# Altium integrated library Texas Instruments Power Management PWM Controller.IntLib: 1227 symbols (part 42 of 49)
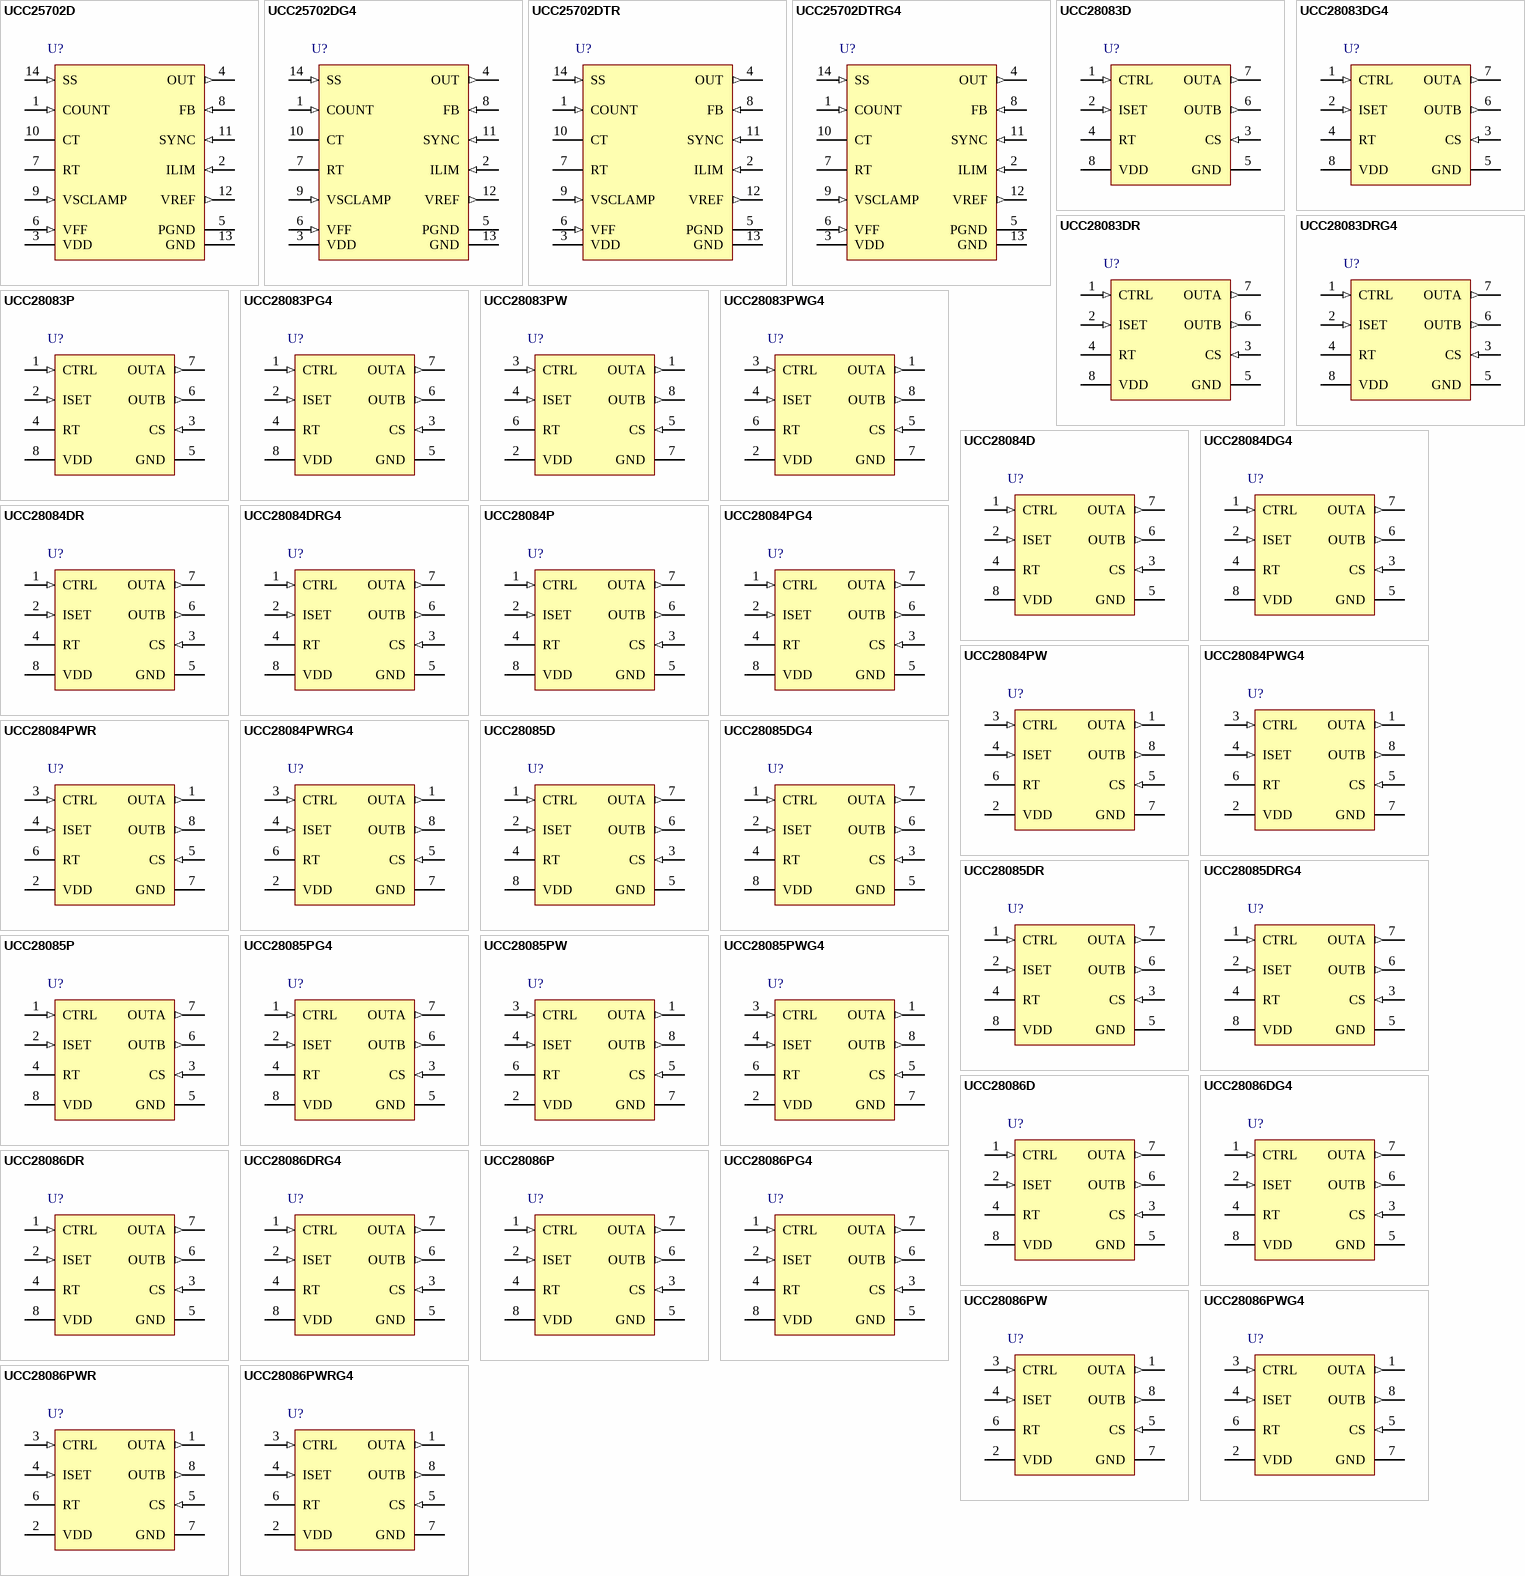
[diagram p84: symbols UCC25702D to UCC28086PWRG4]

## UCC25702DTR
designator U?
Advanced Voltage Mode Pulse Width Modulator with Voltage Control, 99 % Duty Cycle, -40 to +85 degC, 14-pin SOIC (D), Green (RoHS & no Sb/Br); PartNumber: UCC25702DTR; Manufacturer: Texas Instruments; Duty Cycle(Max)(%): 99; Frequency(Max)(kHz): 700; Rating: Catalog; Regulated Outputs(#): 1; SubFamily: PWM Controller; Topology: Boost, Flyback, Forward; UVLO Thresholds On/Off(V): 9.9/9.1; DatasheetVersion: SLUS293C; PackageVersion: revM, Jun-2011; PackageReference: D14; PackageDescription: 14-Pin Plastic Small Outline Integrated Circuit, 8.7 x 3.9 mm, Pitch 1.27 mm Pitch; Supplier 1: Digi-Key; Supplier Part Number 1: UCC25702DTR-ND; Supplier 2: Newark; Supplier Part Number 2: 77C1919; Supplier 3: Mouser; Supplier Part Number 3: 595-UCC25702DTR; Control Method: Voltage; Eco-Plan: Green (RoHS & no Sb/Br); Mounting Technology: Surface Mount; Code_JEDEC: MS-012AB; ComponentLink1Description: Datasheet; ComponentLink1URL: http://www.ti.com/general/docs/lit/getliterature.tsp?genericPartNumber=UCC25702&fileType=pdf
footprint D14_N (SOIC, 14-Leads, Body 8.7x3.9mm, Pitch 1.27mm, IPC Medium Density)
footprint D14_L (SOIC, 14-Leads, Body 8.7x3.9mm, Pitch 1.27mm, IPC High Density)
footprint D14_M (SOIC, 14-Leads, Body 8.7x3.9mm, Pitch 1.27mm, IPC Low Density)
pins: 1 COUNT (in) "Capacitor to ground integrates current pulses generated when ILIM exceeds 200mV. A resistor to ground sets the discharge time constant. A voltage over 4V will initiate a latched soft stop cycle.", 2 ILIM (in) "Provides a pulse by pulse current limit by terminating the PWM pulse when the input is above 200mV. An input over 600mV initiates a latched soft stop cycle.", 3 VDD (power) "Power supply pin. A shunt regulator limits supply voltage to 14V typical at 10mA shunt current.", 4 OUT (out) "Gate drive output. Output resistance is 10ohm maximum.", 5 PGND (power) "Power Ground. Ground return for output driver and currents.", 6 VFF (in) "Voltage feedforward pin. This pin connects to the power supply input voltage through a resistive divider and provides feedforward compensation over a 0.8V to 3.2V range. A voltage greater than 4.0V or less than 0.6V on this (See Datasheet)", 7 RT "The voltage on this pin mirrors VFF over a 0.8V to 3.2V range. A resistor to ground sets the ramp capacitor charge current. The resistor value should be between 20k and 200k.", 8 FB (in) "Input to the PWM comparator. This pin is intended to be driven with an optocoupler circuit. Input impedance is 50 k ohm Typical modulation range is 1.6V to 3.6V.", 9 VSCLAMP (in) "Voltage at this pin is compared to the CT voltage, providing a constant volt-second limit. The comparator output terminates the PWM pulse when the ramp voltage exceeds VSCLAMP.", 10 CT "A capacitor to ground provides the oscillator/ feedforward sawtooth waveform. Charge current is 2 ohm IRT, resulting in a CT slope proportional to the input voltage. The ramp voltage range is GND to VRT.", 11 SYNC (in) "Level sensitive oscillator sync input. A high level forces the gate drive output low and resets the ramp capacitor. On-time starts at the negative edge the pulse. There is a 3 uA pull down current on the pin, allowing it to (See Datasheet)", 12 VREF (out) "5.0V trimmed reference with 2% variation over line, load and temperature. Bypass with a minimum of 0.1 uF to ground.", 13 GND (power) "Analog Ground. Ground return for all other circuits. This pin must be connected directly to PGND on the board.", 14 SS (in) "Soft Start pin. A capacitor is connected between this pin and ground to set the start up time of the converter. After power up (VDD>13V AND VREF>4.5V), or after a fault condition has been cleared, the soft start capacitor is (See Datasheet)"

## UCC25702DTRG4
designator U?
Advanced Voltage Mode Pulse Width Modulator with Voltage Control, 99 % Duty Cycle, -40 to +85 degC, 14-pin SOIC (D), Green (RoHS & no Sb/Br); PartNumber: UCC25702DTRG4; Manufacturer: Texas Instruments; Duty Cycle(Max)(%): 99; Frequency(Max)(kHz): 700; Rating: Catalog; Regulated Outputs(#): 1; SubFamily: PWM Controller; Topology: Boost, Flyback, Forward; UVLO Thresholds On/Off(V): 9.9/9.1; DatasheetVersion: SLUS293C; PackageVersion: revM, Jun-2011; PackageReference: D14; PackageDescription: 14-Pin Plastic Small Outline Integrated Circuit, 8.7 x 3.9 mm, Pitch 1.27 mm Pitch; Supplier 1: Digi-Key; Supplier Part Number 1: UCC25702DTRG4-ND; Supplier 2: Newark; Supplier Part Number 2: 58K7035; Supplier 3: Mouser; Supplier Part Number 3: 595-UCC25702DTRG4; Control Method: Voltage; Eco-Plan: Green (RoHS & no Sb/Br); Mounting Technology: Surface Mount; Code_JEDEC: MS-012AB; ComponentLink1Description: Datasheet; ComponentLink1URL: http://www.ti.com/general/docs/lit/getliterature.tsp?genericPartNumber=UCC25702&fileType=pdf
footprint D14_N (SOIC, 14-Leads, Body 8.7x3.9mm, Pitch 1.27mm, IPC Medium Density)
footprint D14_L (SOIC, 14-Leads, Body 8.7x3.9mm, Pitch 1.27mm, IPC High Density)
footprint D14_M (SOIC, 14-Leads, Body 8.7x3.9mm, Pitch 1.27mm, IPC Low Density)
pins: 1 COUNT (in) "Capacitor to ground integrates current pulses generated when ILIM exceeds 200mV. A resistor to ground sets the discharge time constant. A voltage over 4V will initiate a latched soft stop cycle.", 2 ILIM (in) "Provides a pulse by pulse current limit by terminating the PWM pulse when the input is above 200mV. An input over 600mV initiates a latched soft stop cycle.", 3 VDD (power) "Power supply pin. A shunt regulator limits supply voltage to 14V typical at 10mA shunt current.", 4 OUT (out) "Gate drive output. Output resistance is 10ohm maximum.", 5 PGND (power) "Power Ground. Ground return for output driver and currents.", 6 VFF (in) "Voltage feedforward pin. This pin connects to the power supply input voltage through a resistive divider and provides feedforward compensation over a 0.8V to 3.2V range. A voltage greater than 4.0V or less than 0.6V on this (See Datasheet)", 7 RT "The voltage on this pin mirrors VFF over a 0.8V to 3.2V range. A resistor to ground sets the ramp capacitor charge current. The resistor value should be between 20k and 200k.", 8 FB (in) "Input to the PWM comparator. This pin is intended to be driven with an optocoupler circuit. Input impedance is 50 k ohm Typical modulation range is 1.6V to 3.6V.", 9 VSCLAMP (in) "Voltage at this pin is compared to the CT voltage, providing a constant volt-second limit. The comparator output terminates the PWM pulse when the ramp voltage exceeds VSCLAMP.", 10 CT "A capacitor to ground provides the oscillator/ feedforward sawtooth waveform. Charge current is 2 ohm IRT, resulting in a CT slope proportional to the input voltage. The ramp voltage range is GND to VRT.", 11 SYNC (in) "Level sensitive oscillator sync input. A high level forces the gate drive output low and resets the ramp capacitor. On-time starts at the negative edge the pulse. There is a 3 uA pull down current on the pin, allowing it to (See Datasheet)", 12 VREF (out) "5.0V trimmed reference with 2% variation over line, load and temperature. Bypass with a minimum of 0.1 uF to ground.", 13 GND (power) "Analog Ground. Ground return for all other circuits. This pin must be connected directly to PGND on the board.", 14 SS (in) "Soft Start pin. A capacitor is connected between this pin and ground to set the start up time of the converter. After power up (VDD>13V AND VREF>4.5V), or after a fault condition has been cleared, the soft start capacitor is (See Datasheet)"

## UCC28083D
designator U?
Current Mode Push-Pull PWM Controller with Programmable Slope Compensation with Current Control, 50 % Duty Cycle, -40 to +85 degC, 8-pin SOIC (D), Green (RoHS & no Sb/Br); PartNumber: UCC28083D; Manufacturer: Texas Instruments; Duty Cycle(Max)(%): 50; Frequency(Max)(kHz): 1000; Rating: Catalog; Regulated Outputs(#): 2; Topology: Half-Bridge, Push-Pull; UVLO Thresholds On/Off(V): 12.5/8.3; DatasheetVersion: SLUS488E; PackageVersion: revM, Jun-2011; PackageReference: D8; PackageDescription: 8-Pin Plastic Small Outline Integrated Circuit, 4.9 x 3.9 mm, Pitch 1.27 mm Pitch; Supplier 1: Digi-Key; Supplier Part Number 1: 296-13676-5-ND; Supplier 2: Newark; Supplier Part Number 2: 02E7312; Supplier 3: Mouser; Supplier Part Number 3: 595-UCC28083D; Control Method: Current; Eco-Plan: Green (RoHS & no Sb/Br); SubFamily: PWM Controller; Mounting Technology: Surface Mount; Code_JEDEC: MS-012AA; ComponentLink1Description: Datasheet; ComponentLink1URL: http://www.ti.com/general/docs/lit/getliterature.tsp?genericPartNumber=UCC28083&fileType=pdf
footprint D8_N (SOIC, 8-Leads, Body 4.9x3.9mm, Pitch 1.27mm, IPC Medium Density)
footprint D8_L (SOIC, 8-Leads, Body 4.9x3.9mm, Pitch 1.27mm, IPC High Density)
footprint D8_M (SOIC, 8-Leads, Body 4.9x3.9mm, Pitch 1.27mm, IPC Low Density)
pins: 1 CTRL (in) "Error voltage input to PWM comparator", 2 ISET (in) "Current selection for slope compensation.", 3 CS (in) "The current-sense input to the PWM comparator, the cycle-by-cycle peak current comparator, and the overcurrent comparator. The overcurrent comparator is only intended for fault sensing. Exceeding the overcurrent threshold (See Datasheet)", 4 RT "Programs the oscillator", 5 GND (power) "Reference ground and power ground for all functions. Due to high currents, and high-frequency operation of the IC, a low-impedance circuit board ground plane is highly recommended.", 6 OUTB (out) "Alternating high-current output stages.", 7 OUTA (out) "Alternating high-current output stages.", 8 VDD (power) "Power input connection."

## UCC28083DG4
designator U?
Current Mode Push-Pull PWM Controller with Programmable Slope Compensation with Current Control, 50 % Duty Cycle, -40 to +85 degC, 8-pin SOIC (D), Green (RoHS & no Sb/Br); PartNumber: UCC28083DG4; Manufacturer: Texas Instruments; Duty Cycle(Max)(%): 50; Frequency(Max)(kHz): 1000; Rating: Catalog; Regulated Outputs(#): 2; Topology: Half-Bridge, Push-Pull; UVLO Thresholds On/Off(V): 12.5/8.3; DatasheetVersion: SLUS488E; PackageVersion: revM, Jun-2011; PackageReference: D8; PackageDescription: 8-Pin Plastic Small Outline Integrated Circuit, 4.9 x 3.9 mm, Pitch 1.27 mm Pitch; Supplier 1: Digi-Key; Supplier Part Number 1: UCC28083DG4-ND; Supplier 2: Farnell; Supplier Part Number 2: 1207399; Supplier 3: Newark; Supplier Part Number 3: 24M8863; Supplier 4: Newark; Supplier Part Number 4: 70K5879; Supplier 5: Mouser; Supplier Part Number 5: 595-UCC28083DG4; Control Method: Current; Eco-Plan: Green (RoHS & no Sb/Br); SubFamily: PWM Controller; Mounting Technology: Surface Mount; Code_JEDEC: MS-012AA; ComponentLink1Description: Datasheet; ComponentLink1URL: http://www.ti.com/general/docs/lit/getliterature.tsp?genericPartNumber=UCC28083&fileType=pdf
footprint D8_N (SOIC, 8-Leads, Body 4.9x3.9mm, Pitch 1.27mm, IPC Medium Density)
footprint D8_L (SOIC, 8-Leads, Body 4.9x3.9mm, Pitch 1.27mm, IPC High Density)
footprint D8_M (SOIC, 8-Leads, Body 4.9x3.9mm, Pitch 1.27mm, IPC Low Density)
pins: 1 CTRL (in) "Error voltage input to PWM comparator", 2 ISET (in) "Current selection for slope compensation.", 3 CS (in) "The current-sense input to the PWM comparator, the cycle-by-cycle peak current comparator, and the overcurrent comparator. The overcurrent comparator is only intended for fault sensing. Exceeding the overcurrent threshold (See Datasheet)", 4 RT "Programs the oscillator", 5 GND (power) "Reference ground and power ground for all functions. Due to high currents, and high-frequency operation of the IC, a low-impedance circuit board ground plane is highly recommended.", 6 OUTB (out) "Alternating high-current output stages.", 7 OUTA (out) "Alternating high-current output stages.", 8 VDD (power) "Power input connection."

## UCC28083DR
designator U?
Current Mode Push-Pull PWM Controller with Programmable Slope Compensation with Current Control, 50 % Duty Cycle, -40 to +85 degC, 8-pin SOIC (D), Green (RoHS & no Sb/Br); PartNumber: UCC28083DR; Manufacturer: Texas Instruments; Duty Cycle(Max)(%): 50; Frequency(Max)(kHz): 1000; Rating: Catalog; Regulated Outputs(#): 2; Topology: Half-Bridge, Push-Pull; UVLO Thresholds On/Off(V): 12.5/8.3; DatasheetVersion: SLUS488E; PackageVersion: revM, Jun-2011; PackageReference: D8; PackageDescription: 8-Pin Plastic Small Outline Integrated Circuit, 4.9 x 3.9 mm, Pitch 1.27 mm Pitch; Supplier 1: Digi-Key; Supplier Part Number 1: UCC28083DR-ND; Supplier 2: Newark; Supplier Part Number 2: 02E7313; Supplier 3: Mouser; Supplier Part Number 3: 595-UCC28083DR; Control Method: Current; Eco-Plan: Green (RoHS & no Sb/Br); SubFamily: PWM Controller; Mounting Technology: Surface Mount; Code_JEDEC: MS-012AA; ComponentLink1Description: Datasheet; ComponentLink1URL: http://www.ti.com/general/docs/lit/getliterature.tsp?genericPartNumber=UCC28083&fileType=pdf
footprint D8_N (SOIC, 8-Leads, Body 4.9x3.9mm, Pitch 1.27mm, IPC Medium Density)
footprint D8_L (SOIC, 8-Leads, Body 4.9x3.9mm, Pitch 1.27mm, IPC High Density)
footprint D8_M (SOIC, 8-Leads, Body 4.9x3.9mm, Pitch 1.27mm, IPC Low Density)
pins: 1 CTRL (in) "Error voltage input to PWM comparator", 2 ISET (in) "Current selection for slope compensation.", 3 CS (in) "The current-sense input to the PWM comparator, the cycle-by-cycle peak current comparator, and the overcurrent comparator. The overcurrent comparator is only intended for fault sensing. Exceeding the overcurrent threshold (See Datasheet)", 4 RT "Programs the oscillator", 5 GND (power) "Reference ground and power ground for all functions. Due to high currents, and high-frequency operation of the IC, a low-impedance circuit board ground plane is highly recommended.", 6 OUTB (out) "Alternating high-current output stages.", 7 OUTA (out) "Alternating high-current output stages.", 8 VDD (power) "Power input connection."

## UCC28083DRG4
designator U?
Current Mode Push-Pull PWM Controller with Programmable Slope Compensation with Current Control, 50 % Duty Cycle, -40 to +85 degC, 8-pin SOIC (D), Green (RoHS & no Sb/Br); PartNumber: UCC28083DRG4; Manufacturer: Texas Instruments; Duty Cycle(Max)(%): 50; Frequency(Max)(kHz): 1000; Rating: Catalog; Regulated Outputs(#): 2; Topology: Half-Bridge, Push-Pull; UVLO Thresholds On/Off(V): 12.5/8.3; DatasheetVersion: SLUS488E; PackageVersion: revM, Jun-2011; PackageReference: D8; PackageDescription: 8-Pin Plastic Small Outline Integrated Circuit, 4.9 x 3.9 mm, Pitch 1.27 mm Pitch; Supplier 1: Digi-Key; Supplier Part Number 1: UCC28083DRG4-ND; Supplier 2: Newark; Supplier Part Number 2: 71J8425; Supplier 3: Mouser; Supplier Part Number 3: 595-UCC28083DRG4; Control Method: Current; Eco-Plan: Green (RoHS & no Sb/Br); SubFamily: PWM Controller; Mounting Technology: Surface Mount; Code_JEDEC: MS-012AA; ComponentLink1Description: Datasheet; ComponentLink1URL: http://www.ti.com/general/docs/lit/getliterature.tsp?genericPartNumber=UCC28083&fileType=pdf
footprint D8_N (SOIC, 8-Leads, Body 4.9x3.9mm, Pitch 1.27mm, IPC Medium Density)
footprint D8_L (SOIC, 8-Leads, Body 4.9x3.9mm, Pitch 1.27mm, IPC High Density)
footprint D8_M (SOIC, 8-Leads, Body 4.9x3.9mm, Pitch 1.27mm, IPC Low Density)
pins: 1 CTRL (in) "Error voltage input to PWM comparator", 2 ISET (in) "Current selection for slope compensation.", 3 CS (in) "The current-sense input to the PWM comparator, the cycle-by-cycle peak current comparator, and the overcurrent comparator. The overcurrent comparator is only intended for fault sensing. Exceeding the overcurrent threshold (See Datasheet)", 4 RT "Programs the oscillator", 5 GND (power) "Reference ground and power ground for all functions. Due to high currents, and high-frequency operation of the IC, a low-impedance circuit board ground plane is highly recommended.", 6 OUTB (out) "Alternating high-current output stages.", 7 OUTA (out) "Alternating high-current output stages.", 8 VDD (power) "Power input connection."

## UCC28083P
designator U?
Current Mode Push-Pull PWM Controller with Programmable Slope Compensation with Current Control, 50 % Duty Cycle, -40 to +85 degC, 8-pin PDIP (P), Green (RoHS & no Sb/Br); PartNumber: UCC28083P; Manufacturer: Texas Instruments; Duty Cycle(Max)(%): 50; Frequency(Max)(kHz): 1000; Rating: Catalog; Regulated Outputs(#): 2; Topology: Half-Bridge, Push-Pull; UVLO Thresholds On/Off(V): 12.5/8.3; DatasheetVersion: SLUS488E; PackageVersion: revE, Apr-2010; PackageReference: P8; PackageDescription: 8-Pin Plastic Dual-In-Line Package, Row Spacing 7.62 mm, Pitch 2.54 mm; Supplier 1: Digi-Key; Supplier Part Number 1: 296-13677-5-ND; Supplier 2: Newark; Supplier Part Number 2: 02E7314; Supplier 3: Mouser; Supplier Part Number 3: 595-UCC28083P; Control Method: Current; Eco-Plan: Green (RoHS & no Sb/Br); SubFamily: PWM Controller; Mounting Technology: Through Hole; Code_JEDEC: MS-001-BA; ComponentLink1Description: Datasheet; ComponentLink1URL: http://www.ti.com/general/docs/lit/getliterature.tsp?genericPartNumber=UCC28083&fileType=pdf
footprint P8 (DIP, 8-Leads, Row Spacing 7.62mm, Pitch 2.54mm, Body 9.6x6.4mm)
pins: 1 CTRL (in) "Error voltage input to PWM comparator.", 2 ISET (in) "Current selection for slope compensation.", 3 CS (in) "The current-sense input to the PWM comparator, the cycle-by-cycle peak current comparator, and the overcurrent comparator. The overcurrent comparator is only intended for fault sensing. Exceeding the overcurrent threshold (See Datasheet)", 4 RT "Programs the oscillator.", 5 GND (power) "Reference ground and power ground for all functions. Due to high currents, and high-frequency operation of the IC, a low-impedance circuit board ground plane is highly recommended.", 6 OUTB (out) "Alternating high-current output stages.", 7 OUTA (out) "Alternating high-current output stages.", 8 VDD (power) "Power input connection."

## UCC28083PG4
designator U?
Current Mode Push-Pull PWM Controller with Programmable Slope Compensation with Current Control, 50 % Duty Cycle, -40 to +85 degC, 8-pin PDIP (P), Green (RoHS & no Sb/Br); PartNumber: UCC28083PG4; Manufacturer: Texas Instruments; Duty Cycle(Max)(%): 50; Frequency(Max)(kHz): 1000; Rating: Catalog; Regulated Outputs(#): 2; Topology: Half-Bridge, Push-Pull; UVLO Thresholds On/Off(V): 12.5/8.3; DatasheetVersion: SLUS488E; PackageVersion: revE, Apr-2010; PackageReference: P8; PackageDescription: 8-Pin Plastic Dual-In-Line Package, Row Spacing 7.62 mm, Pitch 2.54 mm; Supplier 1: Digi-Key; Supplier Part Number 1: UCC28083PG4-ND; Supplier 2: Newark; Supplier Part Number 2: 81K4477; Supplier 3: Mouser; Supplier Part Number 3: 595-UCC28083PG4; Control Method: Current; Eco-Plan: Green (RoHS & no Sb/Br); SubFamily: PWM Controller; Mounting Technology: Through Hole; Code_JEDEC: MS-001-BA; ComponentLink1Description: Datasheet; ComponentLink1URL: http://www.ti.com/general/docs/lit/getliterature.tsp?genericPartNumber=UCC28083&fileType=pdf
footprint P8 (DIP, 8-Leads, Row Spacing 7.62mm, Pitch 2.54mm, Body 9.6x6.4mm)
pins: 1 CTRL (in) "Error voltage input to PWM comparator.", 2 ISET (in) "Current selection for slope compensation.", 3 CS (in) "The current-sense input to the PWM comparator, the cycle-by-cycle peak current comparator, and the overcurrent comparator. The overcurrent comparator is only intended for fault sensing. Exceeding the overcurrent threshold (See Datasheet)", 4 RT "Programs the oscillator.", 5 GND (power) "Reference ground and power ground for all functions. Due to high currents, and high-frequency operation of the IC, a low-impedance circuit board ground plane is highly recommended.", 6 OUTB (out) "Alternating high-current output stages.", 7 OUTA (out) "Alternating high-current output stages.", 8 VDD (power) "Power input connection."

## UCC28083PW
designator U?
Push-Pull PWM Controller with Programmable Slope Compensation with Current Control, 50 % Duty Cycle, -40 to +85 degC, 8-pin TSSOP (PW), Green (RoHS & no Sb/Br); PartNumber: UCC28083PW; Manufacturer: Texas Instruments; Duty Cycle(Max)(%): 50; Frequency(Max)(kHz): 1000; Rating: Catalog; Regulated Outputs(#): 2; Topology: Half-Bridge, Push-Pull; UVLO Thresholds On/Off(V): 12.5/8.3; DatasheetVersion: SLUS488E; PackageVersion: revG, Feb-2011; PackageReference: PW8; PackageDescription: 8-Pin Plastic Thin Small Outline Package 3 x 4.4 mm Body ,0.65 mm Pitch; Supplier 1: Digi-Key; Supplier Part Number 1: 296-14333-5-ND; Supplier 2: Newark; Supplier Part Number 2: 22H1978; Supplier 3: Mouser; Supplier Part Number 3: 595-UCC28083PW; Control Method: Current; Eco-Plan: Green (RoHS & no Sb/Br); SubFamily: PWM Controller; Mounting Technology: Surface Mount; Code_JEDEC: MO-153; ComponentLink1Description: Datasheet; ComponentLink1URL: http://www.ti.com/general/docs/lit/getliterature.tsp?genericPartNumber=UCC28083&fileType=pdf
footprint PW8_N (TSOP, 8-Leads, Body 3x4.4mm, Pitch 0.65mm, IPC Medium Density)
footprint PW8_L (TSOP, 8-Leads, Body 3x4.4mm, Pitch 0.65mm, IPC High Density)
footprint PW8_M (TSOP, 8-Leads, Body 3x4.4mm, Pitch 0.65mm, IPC Low Density)
pins: 1 OUTA (out) "Alternating high-current output stages.", 2 VDD (power) "Power input connection.", 3 CTRL (in) "Error voltage input to PWM comparator.", 4 ISET (in) "Current selection for slope compensation.", 5 CS (in) "The current-sense input to the PWM comparator, the cycle-by-cycle peak current comparator, and the overcurrent comparator. The overcurrent comparator is only intended for fault sensing. Exceeding the overcurrent threshold (See Datasheet)", 6 RT "Programs the oscillator.", 7 GND (power) "Reference ground and power ground for all functions. Due to high currents, and high-frequency operation of the IC, a low-impedance circuit board ground plane is highly recommended.", 8 OUTB (out) "Alternating high-current output stages."

## UCC28083PWG4
designator U?
Current Mode Push-Pull PWM Controller with Programmable Slope Compensation with Current Control, 50 % Duty Cycle, -40 to +85 degC, 8-pin TSSOP (PW), Green (RoHS & no Sb/Br); PartNumber: UCC28083PWG4; Manufacturer: Texas Instruments; Duty Cycle(Max)(%): 50; Frequency(Max)(kHz): 1000; Rating: Catalog; Regulated Outputs(#): 2; Topology: Half-Bridge, Push-Pull; UVLO Thresholds On/Off(V): 12.5/8.3; DatasheetVersion: SLUS488E; PackageVersion: revG, Feb-2011; PackageReference: PW8; PackageDescription: 8-Pin Plastic Thin Small Outline Package 3 x 4.4 mm Body ,0.65 mm Pitch; Supplier 1: Digi-Key; Supplier Part Number 1: UCC28083PWG4-ND; Supplier 2: Newark; Supplier Part Number 2: 60M2692; Supplier 3: Mouser; Supplier Part Number 3: 595-UCC28083PWG4; Control Method: Current; Eco-Plan: Green (RoHS & no Sb/Br); SubFamily: PWM Controller; Mounting Technology: Surface Mount; Code_JEDEC: MO-153; ComponentLink1Description: Datasheet; ComponentLink1URL: http://www.ti.com/general/docs/lit/getliterature.tsp?genericPartNumber=UCC28083&fileType=pdf
footprint PW8_N (TSOP, 8-Leads, Body 3x4.4mm, Pitch 0.65mm, IPC Medium Density)
footprint PW8_L (TSOP, 8-Leads, Body 3x4.4mm, Pitch 0.65mm, IPC High Density)
footprint PW8_M (TSOP, 8-Leads, Body 3x4.4mm, Pitch 0.65mm, IPC Low Density)
pins: 1 OUTA (out) "Alternating high-current output stages.", 2 VDD (power) "Power input connection.", 3 CTRL (in) "Error voltage input to PWM comparator.", 4 ISET (in) "Current selection for slope compensation.", 5 CS (in) "The current-sense input to the PWM comparator, the cycle-by-cycle peak current comparator, and the overcurrent comparator. The overcurrent comparator is only intended for fault sensing. Exceeding the overcurrent threshold (See Datasheet)", 6 RT "Programs the oscillator.", 7 GND (power) "Reference ground and power ground for all functions. Due to high currents, and high-frequency operation of the IC, a low-impedance circuit board ground plane is highly recommended.", 8 OUTB (out) "Alternating high-current output stages."

## UCC28084D
designator U?
Current Mode Push-Pull PWM Controller with Programmable Slope Compensation with Current Control, 50 % Duty Cycle, -40 to +85 degC, 8-pin SOIC (D), Green (RoHS & no Sb/Br); PartNumber: UCC28084D; Manufacturer: Texas Instruments; Duty Cycle(Max)(%): 50; Frequency(Max)(kHz): 1000; Rating: Catalog; Regulated Outputs(#): 2; Topology: Half-Bridge, Push-Pull; UVLO Thresholds On/Off(V): 4.3/4.1; DatasheetVersion: SLUS488E; PackageVersion: revM, Jun-2011; PackageReference: D8; PackageDescription: 8-Pin Plastic Small Outline Integrated Circuit, 4.9 x 3.9 mm, Pitch 1.27 mm Pitch; Supplier 1: Digi-Key; Supplier Part Number 1: 296-13678-5-ND; Supplier 2: Farnell; Supplier Part Number 2: 2148665; Supplier 3: Newark; Supplier Part Number 3: 02E7315; Supplier 4: Mouser; Supplier Part Number 4: 595-UCC28084D; Control Method: Current; Eco-Plan: Green (RoHS & no Sb/Br); SubFamily: PWM Controller; Mounting Technology: Surface Mount; Code_JEDEC: MS-012AA; ComponentLink1Description: Datasheet; ComponentLink1URL: http://www.ti.com/general/docs/lit/getliterature.tsp?genericPartNumber=UCC28084&fileType=pdf
footprint D8_N (SOIC, 8-Leads, Body 4.9x3.9mm, Pitch 1.27mm, IPC Medium Density)
footprint D8_L (SOIC, 8-Leads, Body 4.9x3.9mm, Pitch 1.27mm, IPC High Density)
footprint D8_M (SOIC, 8-Leads, Body 4.9x3.9mm, Pitch 1.27mm, IPC Low Density)
pins: 1 CTRL (in) "Error voltage input to PWM comparator.", 2 ISET (in) "Current selection for slope compensation.", 3 CS (in) "The current-sense input to the PWM comparator, the cycle-by-cycle peak current comparator, and the overcurrent comparator. The overcurrent comparator is only intended for fault sensing. Exceeding the overcurrent threshold (See Datasheet)", 4 RT "Programs the oscillator.", 5 GND (power) "Reference ground and power ground for all functions. Due to high currents, and high-frequency operation of the IC, a low-impedance circuit board ground plane is highly recommended.", 6 OUTB (out) "Alternating high-current output stages.", 7 OUTA (out) "Alternating high-current output stages.", 8 VDD (power) "Power input connection."

## UCC28084DG4
designator U?
Current Mode Push-Pull PWM Controller with Programmable Slope Compensation with Current Control, 50 % Duty Cycle, -40 to +85 degC, 8-pin SOIC (D), Green (RoHS & no Sb/Br); PartNumber: UCC28084DG4; Manufacturer: Texas Instruments; Duty Cycle(Max)(%): 50; Frequency(Max)(kHz): 1000; Rating: Catalog; Regulated Outputs(#): 2; Topology: Half-Bridge, Push-Pull; UVLO Thresholds On/Off(V): 4.3/4.1; DatasheetVersion: SLUS488E; PackageVersion: revM, Jun-2011; PackageReference: D8; PackageDescription: 8-Pin Plastic Small Outline Integrated Circuit, 4.9 x 3.9 mm, Pitch 1.27 mm Pitch; Supplier 1: Digi-Key; Supplier Part Number 1: UCC28084DG4-ND; Supplier 2: Newark; Supplier Part Number 2: 70K5880; Supplier 3: Mouser; Supplier Part Number 3: 595-UCC28084DG4; Control Method: Current; Eco-Plan: Green (RoHS & no Sb/Br); SubFamily: PWM Controller; Mounting Technology: Surface Mount; Code_JEDEC: MS-012AA; ComponentLink1Description: Datasheet; ComponentLink1URL: http://www.ti.com/general/docs/lit/getliterature.tsp?genericPartNumber=UCC28084&fileType=pdf
footprint D8_N (SOIC, 8-Leads, Body 4.9x3.9mm, Pitch 1.27mm, IPC Medium Density)
footprint D8_L (SOIC, 8-Leads, Body 4.9x3.9mm, Pitch 1.27mm, IPC High Density)
footprint D8_M (SOIC, 8-Leads, Body 4.9x3.9mm, Pitch 1.27mm, IPC Low Density)
pins: 1 CTRL (in) "Error voltage input to PWM comparator.", 2 ISET (in) "Current selection for slope compensation.", 3 CS (in) "The current-sense input to the PWM comparator, the cycle-by-cycle peak current comparator, and the overcurrent comparator. The overcurrent comparator is only intended for fault sensing. Exceeding the overcurrent threshold (See Datasheet)", 4 RT "Programs the oscillator.", 5 GND (power) "Reference ground and power ground for all functions. Due to high currents, and high-frequency operation of the IC, a low-impedance circuit board ground plane is highly recommended.", 6 OUTB (out) "Alternating high-current output stages.", 7 OUTA (out) "Alternating high-current output stages.", 8 VDD (power) "Power input connection."

## UCC28084DR
designator U?
Current Mode Push-Pull PWM Controller with Programmable Slope Compensation with Current Control, 50 % Duty Cycle, -40 to +85 degC, 8-pin SOIC (D), Green (RoHS & no Sb/Br); PartNumber: UCC28084DR; Manufacturer: Texas Instruments; Duty Cycle(Max)(%): 50; Frequency(Max)(kHz): 1000; Rating: Catalog; Regulated Outputs(#): 2; Topology: Half-Bridge, Push-Pull; UVLO Thresholds On/Off(V): 4.3/4.1; DatasheetVersion: SLUS488E; PackageVersion: revM, Jun-2011; PackageReference: D8; PackageDescription: 8-Pin Plastic Small Outline Integrated Circuit, 4.9 x 3.9 mm, Pitch 1.27 mm Pitch; Supplier 1: Newark; Supplier Part Number 1: 02E7316; Supplier 2: Mouser; Supplier Part Number 2: 595-UCC28084DR; Control Method: Current; Eco-Plan: Green (RoHS & no Sb/Br); SubFamily: PWM Controller; Mounting Technology: Surface Mount; Code_JEDEC: MS-012AA; ComponentLink1Description: Datasheet; ComponentLink1URL: http://www.ti.com/general/docs/lit/getliterature.tsp?genericPartNumber=UCC28084&fileType=pdf
footprint D8_N (SOIC, 8-Leads, Body 4.9x3.9mm, Pitch 1.27mm, IPC Medium Density)
footprint D8_L (SOIC, 8-Leads, Body 4.9x3.9mm, Pitch 1.27mm, IPC High Density)
footprint D8_M (SOIC, 8-Leads, Body 4.9x3.9mm, Pitch 1.27mm, IPC Low Density)
pins: 1 CTRL (in) "Error voltage input to PWM comparator.", 2 ISET (in) "Current selection for slope compensation.", 3 CS (in) "The current-sense input to the PWM comparator, the cycle-by-cycle peak current comparator, and the overcurrent comparator. The overcurrent comparator is only intended for fault sensing. Exceeding the overcurrent threshold (See Datasheet)", 4 RT "Programs the oscillator.", 5 GND (power) "Reference ground and power ground for all functions. Due to high currents, and high-frequency operation of the IC, a low-impedance circuit board ground plane is highly recommended.", 6 OUTB (out) "Alternating high-current output stages.", 7 OUTA (out) "Alternating high-current output stages.", 8 VDD (power) "Power input connection."

## UCC28084DRG4
designator U?
Current Mode Push-Pull PWM Controller with Programmable Slope Compensation with Current Control, 50 % Duty Cycle, -40 to +85 degC, 8-pin SOIC (D), Green (RoHS & no Sb/Br); PartNumber: UCC28084DRG4; Manufacturer: Texas Instruments; Duty Cycle(Max)(%): 50; Frequency(Max)(kHz): 1000; Rating: Catalog; Regulated Outputs(#): 2; Topology: Half-Bridge, Push-Pull; UVLO Thresholds On/Off(V): 4.3/4.1; DatasheetVersion: SLUS488E; PackageVersion: revM, Jun-2011; PackageReference: D8; PackageDescription: 8-Pin Plastic Small Outline Integrated Circuit, 4.9 x 3.9 mm, Pitch 1.27 mm Pitch; Supplier 1: Digi-Key; Supplier Part Number 1: 296-28011-2-ND; Supplier 2: Digi-Key; Supplier Part Number 2: 296-28011-1-ND; Supplier 3: Digi-Key; Supplier Part Number 3: 296-28011-6-ND; Supplier 4: Newark; Supplier Part Number 4: 61K1954; Supplier 5: Mouser; Supplier Part Number 5: 595-UCC28084DRG4; Control Method: Current; Eco-Plan: Green (RoHS & no Sb/Br); SubFamily: PWM Controller; Mounting Technology: Surface Mount; Code_JEDEC: MS-012AA; ComponentLink1Description: Datasheet; ComponentLink1URL: http://www.ti.com/general/docs/lit/getliterature.tsp?genericPartNumber=UCC28084&fileType=pdf
footprint D8_N (SOIC, 8-Leads, Body 4.9x3.9mm, Pitch 1.27mm, IPC Medium Density)
footprint D8_L (SOIC, 8-Leads, Body 4.9x3.9mm, Pitch 1.27mm, IPC High Density)
footprint D8_M (SOIC, 8-Leads, Body 4.9x3.9mm, Pitch 1.27mm, IPC Low Density)
pins: 1 CTRL (in) "Error voltage input to PWM comparator.", 2 ISET (in) "Current selection for slope compensation.", 3 CS (in) "The current-sense input to the PWM comparator, the cycle-by-cycle peak current comparator, and the overcurrent comparator. The overcurrent comparator is only intended for fault sensing. Exceeding the overcurrent threshold (See Datasheet)", 4 RT "Programs the oscillator.", 5 GND (power) "Reference ground and power ground for all functions. Due to high currents, and high-frequency operation of the IC, a low-impedance circuit board ground plane is highly recommended.", 6 OUTB (out) "Alternating high-current output stages.", 7 OUTA (out) "Alternating high-current output stages.", 8 VDD (power) "Power input connection."

## UCC28084P
designator U?
Current Mode Push-Pull PWM Controller with Programmable Slope Compensation with Current Control, 50 % Duty Cycle, -40 to +85 degC, 8-pin PDIP (P), Green (RoHS & no Sb/Br); PartNumber: UCC28084P; Manufacturer: Texas Instruments; Duty Cycle(Max)(%): 50; Frequency(Max)(kHz): 1000; Rating: Catalog; Regulated Outputs(#): 2; Topology: Half-Bridge, Push-Pull; UVLO Thresholds On/Off(V): 4.3/4.1; DatasheetVersion: SLUS488E; PackageVersion: revE, Apr-2010; PackageReference: P8; PackageDescription: 8-Pin Plastic Dual-In-Line Package, Row Spacing 7.62 mm, Pitch 2.54 mm; Supplier 1: Digi-Key; Supplier Part Number 1: 296-13679-5-ND; Supplier 2: Newark; Supplier Part Number 2: 02E7317; Supplier 3: Mouser; Supplier Part Number 3: 595-UCC28084P; Control Method: Current; Eco-Plan: Green (RoHS & no Sb/Br); SubFamily: PWM Controller; Mounting Technology: Through Hole; Code_JEDEC: MS-001-BA; ComponentLink1Description: Datasheet; ComponentLink1URL: http://www.ti.com/general/docs/lit/getliterature.tsp?genericPartNumber=UCC28084&fileType=pdf
footprint P8 (DIP, 8-Leads, Row Spacing 7.62mm, Pitch 2.54mm, Body 9.6x6.4mm)
pins: 1 CTRL (in) "Error voltage input to PWM comparator.", 2 ISET (in) "Current selection for slope compensation.", 3 CS (in) "The current-sense input to the PWM comparator, the cycle-by-cycle peak current comparator, and the overcurrent comparator. The overcurrent comparator is only intended for fault sensing. Exceeding the overcurrent threshold (See Datasheet)", 4 RT "Programs the oscillator.", 5 GND (power) "Reference ground and power ground for all functions. Due to high currents, and high-frequency operation of the IC, a low-impedance circuit board ground plane is highly recommended.", 6 OUTB (out) "Alternating high-current output stages.", 7 OUTA (out) "Alternating high-current output stages.", 8 VDD (power) "Power input connection."

## UCC28084PG4
designator U?
Current Mode Push-Pull PWM Controller with Programmable Slope Compensation with Current Control, 50 % Duty Cycle, -40 to +85 degC, 8-pin PDIP (P), Green (RoHS & no Sb/Br); PartNumber: UCC28084PG4; Manufacturer: Texas Instruments; Duty Cycle(Max)(%): 50; Frequency(Max)(kHz): 1000; Rating: Catalog; Regulated Outputs(#): 2; Topology: Half-Bridge, Push-Pull; UVLO Thresholds On/Off(V): 4.3/4.1; DatasheetVersion: SLUS488E; PackageVersion: revE, Apr-2010; PackageReference: P8; PackageDescription: 8-Pin Plastic Dual-In-Line Package, Row Spacing 7.62 mm, Pitch 2.54 mm; Supplier 1: Digi-Key; Supplier Part Number 1: UCC28084PG4-ND; Supplier 2: Newark; Supplier Part Number 2: 04M0322; Supplier 3: Mouser; Supplier Part Number 3: 595-UCC28084PG4; Control Method: Current; Eco-Plan: Green (RoHS & no Sb/Br); SubFamily: PWM Controller; Mounting Technology: Through Hole; Code_JEDEC: MS-001-BA; ComponentLink1Description: Datasheet; ComponentLink1URL: http://www.ti.com/general/docs/lit/getliterature.tsp?genericPartNumber=UCC28084&fileType=pdf
footprint P8 (DIP, 8-Leads, Row Spacing 7.62mm, Pitch 2.54mm, Body 9.6x6.4mm)
pins: 1 CTRL (in) "Error voltage input to PWM comparator.", 2 ISET (in) "Current selection for slope compensation.", 3 CS (in) "The current-sense input to the PWM comparator, the cycle-by-cycle peak current comparator, and the overcurrent comparator. The overcurrent comparator is only intended for fault sensing. Exceeding the overcurrent threshold (See Datasheet)", 4 RT "Programs the oscillator.", 5 GND (power) "Reference ground and power ground for all functions. Due to high currents, and high-frequency operation of the IC, a low-impedance circuit board ground plane is highly recommended.", 6 OUTB (out) "Alternating high-current output stages.", 7 OUTA (out) "Alternating high-current output stages.", 8 VDD (power) "Power input connection."

## UCC28084PW
designator U?
Current Mode Push-Pull PWM Controller with Programmable Slope Compensation with Current Control, 50 % Duty Cycle, -40 to +85 degC, 8-pin TSSOP (PW), Green (RoHS & no Sb/Br); PartNumber: UCC28084PW; Manufacturer: Texas Instruments; Duty Cycle(Max)(%): 50; Frequency(Max)(kHz): 1000; Rating: Catalog; Regulated Outputs(#): 2; Topology: Half-Bridge, Push-Pull; UVLO Thresholds On/Off(V): 4.3/4.1; DatasheetVersion: SLUS488E; PackageVersion: revG, Feb-2011; PackageReference: PW8; PackageDescription: 8-Pin Plastic Thin Small Outline Package 3 x 4.4 mm Body ,0.65 mm Pitch; Supplier 1: Digi-Key; Supplier Part Number 1: 296-14334-5-ND; Supplier 2: Newark; Supplier Part Number 2: 22H1980; Supplier 3: Mouser; Supplier Part Number 3: 595-UCC28084PW; Control Method: Current; Eco-Plan: Green (RoHS & no Sb/Br); SubFamily: PWM Controller; Mounting Technology: Surface Mount; Code_JEDEC: MO-153; ComponentLink1Description: Datasheet; ComponentLink1URL: http://www.ti.com/general/docs/lit/getliterature.tsp?genericPartNumber=UCC28084&fileType=pdf
footprint PW8_N (TSOP, 8-Leads, Body 3x4.4mm, Pitch 0.65mm, IPC Medium Density)
footprint PW8_L (TSOP, 8-Leads, Body 3x4.4mm, Pitch 0.65mm, IPC High Density)
footprint PW8_M (TSOP, 8-Leads, Body 3x4.4mm, Pitch 0.65mm, IPC Low Density)
pins: 1 OUTA (out) "Alternating high-current output stages.", 2 VDD (power) "Power input connection.", 3 CTRL (in) "Error voltage input to PWM comparator.", 4 ISET (in) "Current selection for slope compensation.", 5 CS (in) "The current-sense input to the PWM comparator, the cycle-by-cycle peak current comparator, and the overcurrent comparator. The overcurrent comparator is only intended for fault sensing. Exceeding the overcurrent threshold (See Datasheet)", 6 RT "Programs the oscillator.", 7 GND (power) "Reference ground and power ground for all functions. Due to high currents, and high-frequency operation of the IC, a low-impedance circuit board ground plane is highly recommended.", 8 OUTB (out) "Alternating high-current output stages."

## UCC28084PWG4
designator U?
Current Mode Push-Pull PWM Controller with Programmable Slope Compensation with Current Control, 50 % Duty Cycle, -40 to +85 degC, 8-pin TSSOP (PW), Green (RoHS & no Sb/Br); PartNumber: UCC28084PWG4; Manufacturer: Texas Instruments; Duty Cycle(Max)(%): 50; Frequency(Max)(kHz): 1000; Rating: Catalog; Regulated Outputs(#): 2; Topology: Half-Bridge, Push-Pull; UVLO Thresholds On/Off(V): 4.3/4.1; DatasheetVersion: SLUS488E; PackageVersion: revG, Feb-2011; PackageReference: PW8; PackageDescription: 8-Pin Plastic Thin Small Outline Package 3 x 4.4 mm Body ,0.65 mm Pitch; Supplier 1: Digi-Key; Supplier Part Number 1: UCC28084PWG4-ND; Supplier 2: Newark; Supplier Part Number 2: 54K2000; Supplier 3: Mouser; Supplier Part Number 3: 595-UCC28084PWG4; Control Method: Current; Eco-Plan: Green (RoHS & no Sb/Br); SubFamily: PWM Controller; Mounting Technology: Surface Mount; Code_JEDEC: MO-153; ComponentLink1Description: Datasheet; ComponentLink1URL: http://www.ti.com/general/docs/lit/getliterature.tsp?genericPartNumber=UCC28084&fileType=pdf
footprint PW8_N (TSOP, 8-Leads, Body 3x4.4mm, Pitch 0.65mm, IPC Medium Density)
footprint PW8_L (TSOP, 8-Leads, Body 3x4.4mm, Pitch 0.65mm, IPC High Density)
footprint PW8_M (TSOP, 8-Leads, Body 3x4.4mm, Pitch 0.65mm, IPC Low Density)
pins: 1 OUTA (out) "Alternating high-current output stages.", 2 VDD (power) "Power input connection.", 3 CTRL (in) "Error voltage input to PWM comparator.", 4 ISET (in) "Current selection for slope compensation.", 5 CS (in) "The current-sense input to the PWM comparator, the cycle-by-cycle peak current comparator, and the overcurrent comparator. The overcurrent comparator is only intended for fault sensing. Exceeding the overcurrent threshold (See Datasheet)", 6 RT "Programs the oscillator.", 7 GND (power) "Reference ground and power ground for all functions. Due to high currents, and high-frequency operation of the IC, a low-impedance circuit board ground plane is highly recommended.", 8 OUTB (out) "Alternating high-current output stages."

## UCC28084PWR
designator U?
Current Mode Push-Pull PWM Controller with Programmable Slope Compensation with Current Control, 50 % Duty Cycle, -40 to +85 degC, 8-pin TSSOP (PW), Green (RoHS & no Sb/Br); PartNumber: UCC28084PWR; Manufacturer: Texas Instruments; Duty Cycle(Max)(%): 50; Frequency(Max)(kHz): 1000; Rating: Catalog; Regulated Outputs(#): 2; Topology: Half-Bridge, Push-Pull; UVLO Thresholds On/Off(V): 4.3/4.1; DatasheetVersion: SLUS488E; PackageVersion: revG, Feb-2011; PackageReference: PW8; PackageDescription: 8-Pin Plastic Thin Small Outline Package 3 x 4.4 mm Body ,0.65 mm Pitch; Supplier 1: Digi-Key; Supplier Part Number 1: UCC28084PWR-ND; Supplier 2: Newark; Supplier Part Number 2: 22H1981; Supplier 3: Mouser; Supplier Part Number 3: 595-UCC28084PWR; Control Method: Current; Eco-Plan: Green (RoHS & no Sb/Br); SubFamily: PWM Controller; Mounting Technology: Surface Mount; Code_JEDEC: MO-153; ComponentLink1Description: Datasheet; ComponentLink1URL: http://www.ti.com/general/docs/lit/getliterature.tsp?genericPartNumber=UCC28084&fileType=pdf
footprint PW8_N (TSOP, 8-Leads, Body 3x4.4mm, Pitch 0.65mm, IPC Medium Density)
footprint PW8_L (TSOP, 8-Leads, Body 3x4.4mm, Pitch 0.65mm, IPC High Density)
footprint PW8_M (TSOP, 8-Leads, Body 3x4.4mm, Pitch 0.65mm, IPC Low Density)
pins: 1 OUTA (out) "Alternating high-current output stages.", 2 VDD (power) "Power input connection.", 3 CTRL (in) "Error voltage input to PWM comparator.", 4 ISET (in) "Current selection for slope compensation.", 5 CS (in) "The current-sense input to the PWM comparator, the cycle-by-cycle peak current comparator, and the overcurrent comparator. The overcurrent comparator is only intended for fault sensing. Exceeding the overcurrent threshold (See Datasheet)", 6 RT "Programs the oscillator.", 7 GND (power) "Reference ground and power ground for all functions. Due to high currents, and high-frequency operation of the IC, a low-impedance circuit board ground plane is highly recommended.", 8 OUTB (out) "Alternating high-current output stages."

## UCC28084PWRG4
designator U?
Push-Pull PWM Controller with Programmable Slope Compensation with Current Control, 50 % Duty Cycle, -40 to +85 degC, 8-pin TSSOP (PW), Green (RoHS & no Sb/Br); PartNumber: UCC28084PWRG4; Manufacturer: Texas Instruments; Duty Cycle(Max)(%): 50; Frequency(Max)(kHz): 1000; Rating: Catalog; Regulated Outputs(#): 2; Topology: Half-Bridge, Push-Pull; UVLO Thresholds On/Off(V): 4.3/4.1; DatasheetVersion: SLUS488E; PackageVersion: revG, Feb-2011; PackageReference: PW8; PackageDescription: 8-Pin Plastic Thin Small Outline Package 3 x 4.4 mm Body ,0.65 mm Pitch; Supplier 1: Digi-Key; Supplier Part Number 1: UCC28084PWRG4-ND; Supplier 2: Newark; Supplier Part Number 2: 54K2001; Supplier 3: Mouser; Supplier Part Number 3: 595-UCC28084PWRG4; Control Method: Current; Eco-Plan: Green (RoHS & no Sb/Br); SubFamily: PWM Controller; Mounting Technology: Surface Mount; Code_JEDEC: MO-153; ComponentLink1Description: Datasheet; ComponentLink1URL: http://www.ti.com/general/docs/lit/getliterature.tsp?genericPartNumber=UCC28084&fileType=pdf
footprint PW8_N (TSOP, 8-Leads, Body 3x4.4mm, Pitch 0.65mm, IPC Medium Density)
footprint PW8_L (TSOP, 8-Leads, Body 3x4.4mm, Pitch 0.65mm, IPC High Density)
footprint PW8_M (TSOP, 8-Leads, Body 3x4.4mm, Pitch 0.65mm, IPC Low Density)
pins: 1 OUTA (out) "Alternating high-current output stages.", 2 VDD (power) "Power input connection.", 3 CTRL (in) "Error voltage input to PWM comparator.", 4 ISET (in) "Current selection for slope compensation.", 5 CS (in) "The current-sense input to the PWM comparator, the cycle-by-cycle peak current comparator, and the overcurrent comparator. The overcurrent comparator is only intended for fault sensing. Exceeding the overcurrent threshold (See Datasheet)", 6 RT "Programs the oscillator.", 7 GND (power) "Reference ground and power ground for all functions. Due to high currents, and high-frequency operation of the IC, a low-impedance circuit board ground plane is highly recommended.", 8 OUTB (out) "Alternating high-current output stages."

## UCC28085D
designator U?
Push-Pull PWM Controller with Programmable Slope Compensation with Current Control, 50 % Duty Cycle, -40 to +85 degC, 8-pin SOIC (D), Green (RoHS & no Sb/Br); PartNumber: UCC28085D; Manufacturer: Texas Instruments; Duty Cycle(Max)(%): 50; Frequency(Max)(kHz): 1000; Rating: Catalog; Regulated Outputs(#): 2; Topology: Half-Bridge, Push-Pull; UVLO Thresholds On/Off(V): 12.5/8.3; DatasheetVersion: SLUS488E; PackageVersion: revM, Jun-2011; PackageReference: D8; PackageDescription: 8-Pin Plastic Small Outline Integrated Circuit, 4.9 x 3.9 mm, Pitch 1.27 mm Pitch; Supplier 1: Digi-Key; Supplier Part Number 1: 296-13680-5-ND; Supplier 2: Newark; Supplier Part Number 2: 02E7318; Supplier 3: Mouser; Supplier Part Number 3: 595-UCC28085D; Control Method: Current; Eco-Plan: Green (RoHS & no Sb/Br); SubFamily: PWM Controller; Mounting Technology: Surface Mount; Code_JEDEC: MS-012AA; ComponentLink1Description: Datasheet; ComponentLink1URL: http://www.ti.com/general/docs/lit/getliterature.tsp?genericPartNumber=UCC28085&fileType=pdf
footprint D8_N (SOIC, 8-Leads, Body 4.9x3.9mm, Pitch 1.27mm, IPC Medium Density)
footprint D8_L (SOIC, 8-Leads, Body 4.9x3.9mm, Pitch 1.27mm, IPC High Density)
footprint D8_M (SOIC, 8-Leads, Body 4.9x3.9mm, Pitch 1.27mm, IPC Low Density)
pins: 1 CTRL (in) "Error voltage input to PWM comparator.", 2 ISET (in) "Current selection for slope compensation.", 3 CS (in) "The current-sense input to the PWM comparator, the cycle-by-cycle peak current comparator, and the overcurrent comparator. The overcurrent comparator is only intended for fault sensing. Exceeding the overcurrent threshold (See Datasheet)", 4 RT "Programs the oscillator.", 5 GND (power) "Reference ground and power ground for all functions. Due to high currents, and high-frequency operation of the IC, a low-impedance circuit board ground plane is highly recommended.", 6 OUTB (out) "Alternating high-current output stages.", 7 OUTA (out) "Alternating high-current output stages.", 8 VDD (power) "Power input connection."

## UCC28085DG4
designator U?
Push-Pull PWM Controller with Programmable Slope Compensation with Current Control, 50 % Duty Cycle, -40 to +85 degC, 8-pin SOIC (D), Green (RoHS & no Sb/Br); PartNumber: UCC28085DG4; Manufacturer: Texas Instruments; Duty Cycle(Max)(%): 50; Frequency(Max)(kHz): 1000; Rating: Catalog; Regulated Outputs(#): 2; Topology: Half-Bridge, Push-Pull; UVLO Thresholds On/Off(V): 12.5/8.3; DatasheetVersion: SLUS488E; PackageVersion: revM, Jun-2011; PackageReference: D8; PackageDescription: 8-Pin Plastic Small Outline Integrated Circuit, 4.9 x 3.9 mm, Pitch 1.27 mm Pitch; Supplier 1: Digi-Key; Supplier Part Number 1: UCC28085DG4-ND; Supplier 2: Newark; Supplier Part Number 2: 34M0245; Supplier 3: Mouser; Supplier Part Number 3: 595-UCC28085DG4; Control Method: Current; Eco-Plan: Green (RoHS & no Sb/Br); SubFamily: PWM Controller; Mounting Technology: Surface Mount; Code_JEDEC: MS-012AA; ComponentLink1Description: Datasheet; ComponentLink1URL: http://www.ti.com/general/docs/lit/getliterature.tsp?genericPartNumber=UCC28085&fileType=pdf
footprint D8_N (SOIC, 8-Leads, Body 4.9x3.9mm, Pitch 1.27mm, IPC Medium Density)
footprint D8_L (SOIC, 8-Leads, Body 4.9x3.9mm, Pitch 1.27mm, IPC High Density)
footprint D8_M (SOIC, 8-Leads, Body 4.9x3.9mm, Pitch 1.27mm, IPC Low Density)
pins: 1 CTRL (in) "Error voltage input to PWM comparator.", 2 ISET (in) "Current selection for slope compensation.", 3 CS (in) "The current-sense input to the PWM comparator, the cycle-by-cycle peak current comparator, and the overcurrent comparator. The overcurrent comparator is only intended for fault sensing. Exceeding the overcurrent threshold (See Datasheet)", 4 RT "Programs the oscillator.", 5 GND (power) "Reference ground and power ground for all functions. Due to high currents, and high-frequency operation of the IC, a low-impedance circuit board ground plane is highly recommended.", 6 OUTB (out) "Alternating high-current output stages.", 7 OUTA (out) "Alternating high-current output stages.", 8 VDD (power) "Power input connection."